# EAGLE library part LM358 (library __MyCommonLib1)
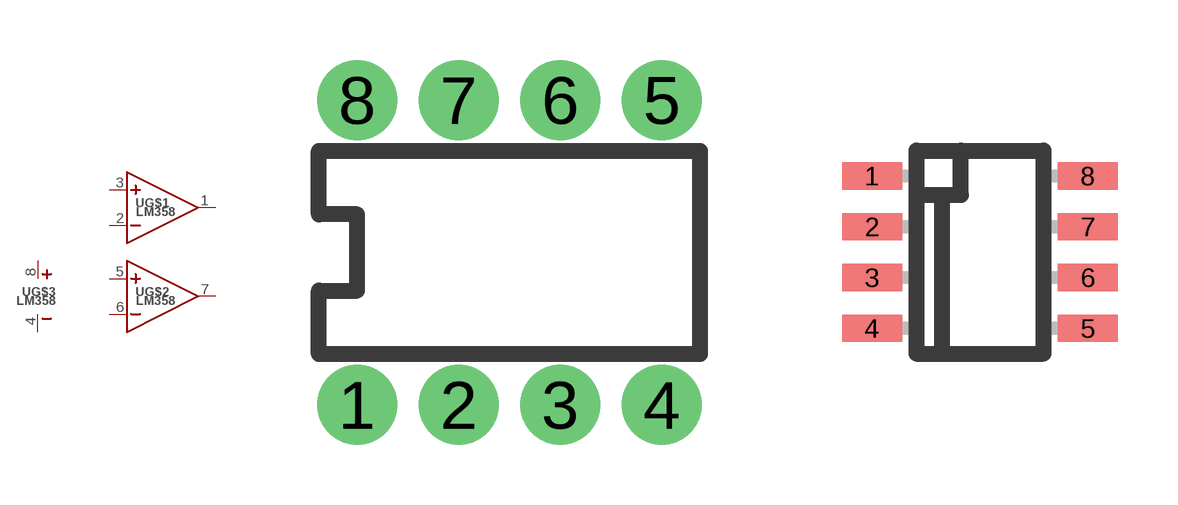
[diagram p13: symbol with the pads of DIP8; footprints DIP8, SOIC8]

Designator prefix -; gates G$1=OP_AMP G$2=OP_AMP G$3=IC_POWER_SUPPLY

## LM358DIP8  [DIP8]
1  G$1:OUT  out
2  G$1:IN-  in
3  G$1:IN+  in
4  G$3:GND  pwr
5  G$2:IN+  in
6  G$2:IN-  in
7  G$2:OUT  out
8  G$3:VCC  pwr

## LM358SOIC8  [SOIC8]
Pads as for DIP8

## Footprint DIP8 (pad centres in mm)
drill 0.9 pad 2: 1 -3.81,-3.81; 2 -1.27,-3.81; 3 1.27,-3.81; 4 3.81,-3.81; 5 3.81,3.81; 6 1.27,3.81; 7 -1.27,3.81; 8 -3.81,3.81

## Footprint SOIC8 (pad centres in mm)
smd 1.5 x 0.68: 1 -2.699,1.905; 2 -2.699,0.635; 3 -2.699,-0.635; 4 -2.699,-1.905; 5 2.699,-1.905; 6 2.699,-0.635; 7 2.699,0.635; 8 2.699,1.905